# EAGLE library part TFP401 (library ICs)
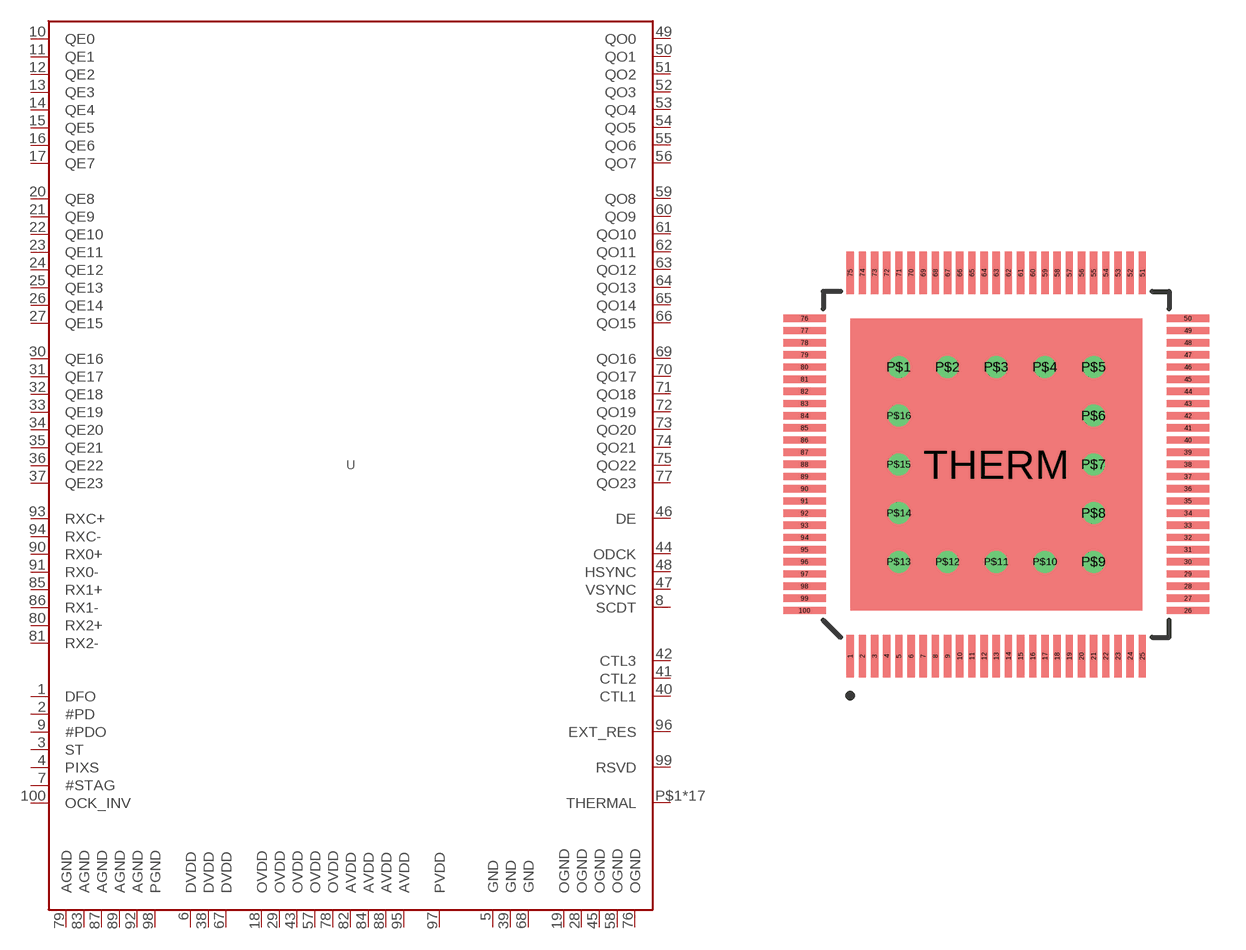
[diagram p36: symbol with the pads of S-PQFP-G100; footprint S-PQFP-G100]

Designator prefix U

## TFP401  [S-PQFP-G100]
1  DFO  in
2  #PD  in
3  ST  in
4  PIXS  in
5  GND  pwr
6  DVDD  pwr
7  #STAG  in
8  SCDT  out
9  #PDO  in
10  QE0  out
11  QE1  out
12  QE2  out
13  QE3  out
14  QE4  out
15  QE5  out
16  QE6  out
17  QE7  out
18  OVDD  pwr
19  OGND  pwr
20  QE8  out
21  QE9  out
22  QE10  out
23  QE11  out
24  QE12  out
25  QE13  out
26  QE14  out
27  QE15  out
28  OGND  pwr
29  OVDD  pwr
30  QE16  out
31  QE17  out
32  QE18  out
33  QE19  out
34  QE20  out
35  QE21  out
36  QE22  out
37  QE23  out
38  DVDD  pwr
39  GND  pwr
40  CTL1  out
41  CTL2  out
42  CTL3  out
43  OVDD  pwr
44  ODCK  out
45  OGND  pwr
46  DE  out
47  VSYNC  out
48  HSYNC  out
49  QO0  out
50  QO1  out
51  QO2  out
52  QO3  out
53  QO4  out
54  QO5  out
55  QO6  out
56  QO7  out
57  OVDD  pwr
58  OGND  pwr
59  QO8  out
60  QO9  out
61  QO10  out
62  QO11  out
63  QO12  out
64  QO13  out
65  QO14  out
66  QO15  out
67  DVDD  pwr
68  GND  pwr
69  QO16  out
70  QO17  out
71  QO18  out
72  QO19  out
73  QO20  out
74  QO21  out
75  QO22  out
76  OGND  pwr
77  QO23  out
78  OVDD  pwr
79  AGND  pwr
80  RX2+  in
81  RX2-  in
82  AVDD  pwr
83  AGND  pwr
84  AVDD  pwr
85  RX1+  in
86  RX1-  in
87  AGND  pwr
88  AVDD  pwr
89  AGND  pwr
90  RX0+  in
91  RX0-  in
92  AGND  pwr
93  RXC+  in
94  RXC-  in
95  AVDD  pwr
96  EXT_RES  in
97  PVDD  pwr
98  PGND  pwr
99  RSVD  in
100  OCK_INV  in
P$1  THERMAL
P$2  THERMAL
P$3  THERMAL
P$4  THERMAL
P$5  THERMAL
P$6  THERMAL
P$7  THERMAL
P$8  THERMAL
P$9  THERMAL
P$10  THERMAL
P$11  THERMAL
P$12  THERMAL
P$13  THERMAL
P$14  THERMAL
P$15  THERMAL
P$16  THERMAL
THERM  THERMAL

## Footprint S-PQFP-G100 (pad centres in mm)
PZP 100 - PowerPad TQFP 100 16 x 16
smd 0.3 x 1.75: 1 -6,-7.875; 2 -5.5,-7.875; 3 -5,-7.875; 4 -4.5,-7.875; 5 -4,-7.875; 6 -3.5,-7.875; 7 -3,-7.875; 8 -2.5,-7.875; 9 -2,-7.875; 10 -1.5,-7.875; 11 -1,-7.875; 12 -0.5,-7.875; 13 0,-7.875; 14 0.5,-7.875; 15 1,-7.875; 16 1.5,-7.875; 17 2,-7.875; 18 2.5,-7.875; 19 3,-7.875; 20 3.5,-7.875; 21 4,-7.875; 22 4.5,-7.875; 23 5,-7.875; 24 5.5,-7.875; 25 6,-7.875; 51 6,7.875; 52 5.5,7.875; 53 5,7.875; 54 4.5,7.875; 55 4,7.875; 56 3.5,7.875; 57 3,7.875; 58 2.5,7.875; 59 2,7.875; 60 1.5,7.875; 61 1,7.875; 62 0.5,7.875; 63 0,7.875; 64 -0.5,7.875; 65 -1,7.875; 66 -1.5,7.875; 67 -2,7.875; 68 -2.5,7.875; 69 -3,7.875; 70 -3.5,7.875; 71 -4,7.875; 72 -4.5,7.875; 73 -5,7.875; 74 -5.5,7.875; 75 -6,7.875
smd 1.75 x 0.3: 26 7.875,-6; 27 7.875,-5.5; 28 7.875,-5; 29 7.875,-4.5; 30 7.875,-4; 31 7.875,-3.5; 32 7.875,-3; 33 7.875,-2.5; 34 7.875,-2; 35 7.875,-1.5; 36 7.875,-1; 37 7.875,-0.5; 38 7.875,0; 39 7.875,0.5; 40 7.875,1; 41 7.875,1.5; 42 7.875,2; 43 7.875,2.5; 44 7.875,3; 45 7.875,3.5; 46 7.875,4; 47 7.875,4.5; 48 7.875,5; 49 7.875,5.5; 50 7.875,6; 76 -7.875,6; 77 -7.875,5.5; 78 -7.875,5; 79 -7.875,4.5; 80 -7.875,4; 81 -7.875,3.5; 82 -7.875,3; 83 -7.875,2.5; 84 -7.875,2; 85 -7.875,1.5; 86 -7.875,1; 87 -7.875,0.5; 88 -7.875,0; 89 -7.875,-0.5; 90 -7.875,-1; 91 -7.875,-1.5; 92 -7.875,-2; 93 -7.875,-2.5; 94 -7.875,-3; 95 -7.875,-3.5; 96 -7.875,-4; 97 -7.875,-4.5; 98 -7.875,-5; 99 -7.875,-5.5; 100 -7.875,-6
drill 0.4: P$1 -4,4; P$2 -2,4; P$3 0,4; P$4 2,4; P$5 4,4; P$6 4,2; P$7 4,0; P$8 4,-2; P$9 4,-4; P$10 2,-4; P$11 0,-4; P$12 -2,-4; P$13 -4,-4; P$14 -4,-2; P$15 -4,0; P$16 -4,2
smd 12 x 12: THERM 0,0